# Altium integrated library Renesas Memory.IntLib: 284 symbols (part 9 of 9)
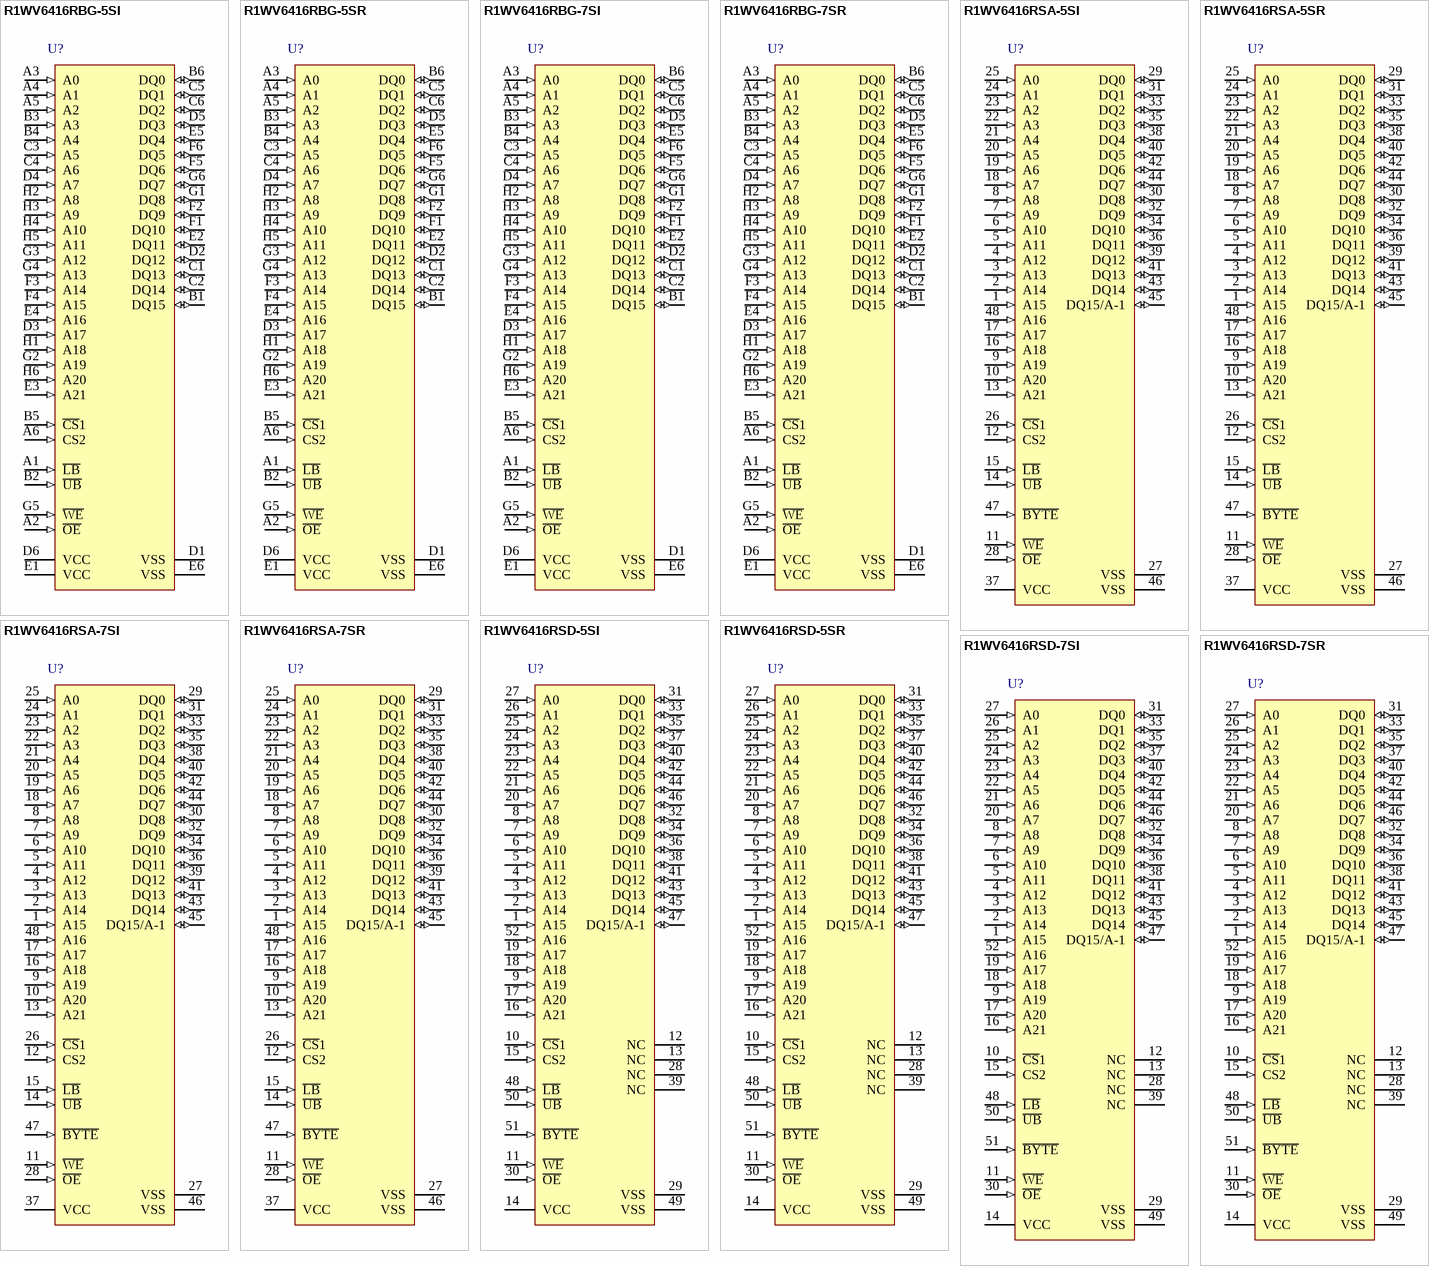
[diagram p23: symbols R1WV6416RBG-5SI to R1WV6416RSD-7SR]

## R1WV6416RBG-7SI
designator U?
R1WV6416R Series 64Mb Advanced LPSRAM (4M word x 16bit / 8M word x 8bit); Published: 3-Mar-2010; DatasheetVersion: Rev.1.00, May-2009; PackageVersion: Jul-2009; PackageReference: PTBG0048HG-A; Publisher: Altium Limited; PackageDescription: 48-Ball Plastic Thin Fine-Pitch BGA, 11 x 8.5 mm Body, 0.75 mm Pitch; Code_JEITA: P-TFBGA48-8.5x11-0.75; ComponentLink1Description: Manufacturer Link; ComponentLink1URL: http://sg.renesas.com/products/memory/memory_category_landing.jsp; ComponentLink2Description: Datasheet; ComponentLink2URL: http://documentation.renesas.com/eng/products/memory/rej03c0368_r1wv6416rds.pdf; ComponentLink3Description: Packaging Specification; ComponentLink3URL: http://sg.renesas.com/media/products/common_info/package/pdf/ic/code/ptbg0048hg_a.pdf
footprint PTBG0048HG-A (BGA, 48-Leads, Body 11x8.5mm, Pitch 0.75mm)
pins: A1 ~{LB} (in), A2 ~{OE} (in), A3 A0 (in), A4 A1 (in), A5 A2 (in), A6 CS2 (in), B1 DQ15 (io), B2 ~{UB} (in), B3 A3 (in), B4 A4 (in), B5 ~{CS}1 (in), B6 DQ0 (io), C1 DQ13 (io), C2 DQ14 (io), C3 A5 (in), C4 A6 (in), C5 DQ1 (io), C6 DQ2 (io), D1 VSS (power), D2 DQ12 (io), D3 A17 (in), D4 A7 (in), D5 DQ3 (io), D6 VCC (power), E1 VCC (power), E2 DQ11 (io), E3 A21 (in), E4 A16 (in), E5 DQ4 (io), E6 VSS (power), F1 DQ10 (io), F2 DQ9 (io), F3 A14 (in), F4 A15 (in), F5 DQ6 (io), F6 DQ5 (io), G1 DQ8 (io), G2 A19 (in), G3 A12 (in), G4 A13 (in), G5 ~{WE} (in), G6 DQ7 (io), H1 A18 (in), H2 A8 (in), H3 A9 (in), H4 A10 (in), H5 A11 (in), H6 A20 (in)

## R1WV6416RBG-7SR
designator U?
R1WV6416R Series 64Mb Advanced LPSRAM (4M word x 16bit / 8M word x 8bit); Published: 3-Mar-2010; DatasheetVersion: Rev.1.00, May-2009; PackageVersion: Jul-2009; PackageReference: PTBG0048HG-A; Publisher: Altium Limited; PackageDescription: 48-Ball Plastic Thin Fine-Pitch BGA, 11 x 8.5 mm Body, 0.75 mm Pitch; Code_JEITA: P-TFBGA48-8.5x11-0.75; ComponentLink1Description: Manufacturer Link; ComponentLink1URL: http://sg.renesas.com/products/memory/memory_category_landing.jsp; ComponentLink2Description: Datasheet; ComponentLink2URL: http://documentation.renesas.com/eng/products/memory/rej03c0368_r1wv6416rds.pdf; ComponentLink3Description: Packaging Specification; ComponentLink3URL: http://sg.renesas.com/media/products/common_info/package/pdf/ic/code/ptbg0048hg_a.pdf
footprint PTBG0048HG-A (BGA, 48-Leads, Body 11x8.5mm, Pitch 0.75mm)
pins: A1 ~{LB} (in), A2 ~{OE} (in), A3 A0 (in), A4 A1 (in), A5 A2 (in), A6 CS2 (in), B1 DQ15 (io), B2 ~{UB} (in), B3 A3 (in), B4 A4 (in), B5 ~{CS}1 (in), B6 DQ0 (io), C1 DQ13 (io), C2 DQ14 (io), C3 A5 (in), C4 A6 (in), C5 DQ1 (io), C6 DQ2 (io), D1 VSS (power), D2 DQ12 (io), D3 A17 (in), D4 A7 (in), D5 DQ3 (io), D6 VCC (power), E1 VCC (power), E2 DQ11 (io), E3 A21 (in), E4 A16 (in), E5 DQ4 (io), E6 VSS (power), F1 DQ10 (io), F2 DQ9 (io), F3 A14 (in), F4 A15 (in), F5 DQ6 (io), F6 DQ5 (io), G1 DQ8 (io), G2 A19 (in), G3 A12 (in), G4 A13 (in), G5 ~{WE} (in), G6 DQ7 (io), H1 A18 (in), H2 A8 (in), H3 A9 (in), H4 A10 (in), H5 A11 (in), H6 A20 (in)

## R1WV6416RSA-5SI
designator U?
R1WV6416R Series 64Mb Advanced LPSRAM (4M word x 16bit / 8M word x 8bit); Published: 3-Mar-2010; DatasheetVersion: Rev.1.00, May-2009; PackageVersion: Sep-2005; PackageReference: PTSA0048KA-A; Publisher: Altium Limited; PackageDescription: 48-Pin Plastic Thin Shrink Small Outline Package 0.5 mm Pitch; Code_JEITA: P-TSOP(1)48-12x18.4-0.50; ComponentLink1Description: Manufacturer Link; ComponentLink1URL: http://sg.renesas.com/products/memory/memory_category_landing.jsp; ComponentLink2Description: Datasheet; ComponentLink2URL: http://documentation.renesas.com/eng/products/memory/rej03c0368_r1wv6416rds.pdf; ComponentLink3Description: Packaging Specification; ComponentLink3URL: http://sg.renesas.com/media/products/common_info/package/pdf/ic/code/ptsa0048ka_a.pdf
footprint PTSA0048KA-A_N (TSSOP, 48-Leads, Body 12x18.4mm, Pitch 0.5mm, IPC Medium Density)
footprint PTSA0048KA-A_L (TSSOP, 48-Leads, Body 12x18.4mm, Pitch 0.5mm, IPC High Density)
footprint PTSA0048KA-A_M (TSSOP, 48-Leads, Body 12x18.4mm, Pitch 0.5mm, IPC Low Density)
pins: 1 A15 (in), 2 A14 (in), 3 A13 (in), 4 A12 (in), 5 A11 (in), 6 A10 (in), 7 A9 (in), 8 A8 (in), 9 A19 (in), 10 A20 (in), 11 ~{WE} (in), 12 CS2 (in), 13 A21 (in), 14 ~{UB} (in), 15 ~{LB} (in), 16 A18 (in), 17 A17 (in), 18 A7 (in), 19 A6 (in), 20 A5 (in), 21 A4 (in), 22 A3 (in), 23 A2 (in), 24 A1 (in), 25 A0 (in), 26 ~{CS}1 (in), 27 VSS (power), 28 ~{OE} (in), 29 DQ0 (io), 30 DQ8 (io), 31 DQ1 (io), 32 DQ9 (io), 33 DQ2 (io), 34 DQ10 (io), 35 DQ3 (io), 36 DQ11 (io), 37 VCC (power), 38 DQ4 (io), 39 DQ12 (io), 40 DQ5 (io), 41 DQ13 (io), 42 DQ6 (io), 43 DQ14 (io), 44 DQ7 (io), 45 DQ15/A-1 (io), 46 VSS (power), 47 ~{BYTE} (in), 48 A16 (in)

## R1WV6416RSA-5SR
designator U?
R1WV6416R Series 64Mb Advanced LPSRAM (4M word x 16bit / 8M word x 8bit); Published: 3-Mar-2010; DatasheetVersion: Rev.1.00, May-2009; PackageVersion: Sep-2005; PackageReference: PTSA0048KA-A; Publisher: Altium Limited; PackageDescription: 48-Pin Plastic Thin Shrink Small Outline Package 0.5 mm Pitch; Code_JEITA: P-TSOP(1)48-12x18.4-0.50; ComponentLink1Description: Manufacturer Link; ComponentLink1URL: http://sg.renesas.com/products/memory/memory_category_landing.jsp; ComponentLink2Description: Datasheet; ComponentLink2URL: http://documentation.renesas.com/eng/products/memory/rej03c0368_r1wv6416rds.pdf; ComponentLink3Description: Packaging Specification; ComponentLink3URL: http://sg.renesas.com/media/products/common_info/package/pdf/ic/code/ptsa0048ka_a.pdf
footprint PTSA0048KA-A_N (TSSOP, 48-Leads, Body 12x18.4mm, Pitch 0.5mm, IPC Medium Density)
footprint PTSA0048KA-A_L (TSSOP, 48-Leads, Body 12x18.4mm, Pitch 0.5mm, IPC High Density)
footprint PTSA0048KA-A_M (TSSOP, 48-Leads, Body 12x18.4mm, Pitch 0.5mm, IPC Low Density)
pins: 1 A15 (in), 2 A14 (in), 3 A13 (in), 4 A12 (in), 5 A11 (in), 6 A10 (in), 7 A9 (in), 8 A8 (in), 9 A19 (in), 10 A20 (in), 11 ~{WE} (in), 12 CS2 (in), 13 A21 (in), 14 ~{UB} (in), 15 ~{LB} (in), 16 A18 (in), 17 A17 (in), 18 A7 (in), 19 A6 (in), 20 A5 (in), 21 A4 (in), 22 A3 (in), 23 A2 (in), 24 A1 (in), 25 A0 (in), 26 ~{CS}1 (in), 27 VSS (power), 28 ~{OE} (in), 29 DQ0 (io), 30 DQ8 (io), 31 DQ1 (io), 32 DQ9 (io), 33 DQ2 (io), 34 DQ10 (io), 35 DQ3 (io), 36 DQ11 (io), 37 VCC (power), 38 DQ4 (io), 39 DQ12 (io), 40 DQ5 (io), 41 DQ13 (io), 42 DQ6 (io), 43 DQ14 (io), 44 DQ7 (io), 45 DQ15/A-1 (io), 46 VSS (power), 47 ~{BYTE} (in), 48 A16 (in)

## R1WV6416RSA-7SI
designator U?
R1WV6416R Series 64Mb Advanced LPSRAM (4M word x 16bit / 8M word x 8bit); Published: 3-Mar-2010; DatasheetVersion: Rev.1.00, May-2009; PackageVersion: Sep-2005; PackageReference: PTSA0048KA-A; Publisher: Altium Limited; PackageDescription: 48-Pin Plastic Thin Shrink Small Outline Package 0.5 mm Pitch; Code_JEITA: P-TSOP(1)48-12x18.4-0.50; ComponentLink1Description: Manufacturer Link; ComponentLink1URL: http://sg.renesas.com/products/memory/memory_category_landing.jsp; ComponentLink2Description: Datasheet; ComponentLink2URL: http://documentation.renesas.com/eng/products/memory/rej03c0368_r1wv6416rds.pdf; ComponentLink3Description: Packaging Specification; ComponentLink3URL: http://sg.renesas.com/media/products/common_info/package/pdf/ic/code/ptsa0048ka_a.pdf
footprint PTSA0048KA-A_N (TSSOP, 48-Leads, Body 12x18.4mm, Pitch 0.5mm, IPC Medium Density)
footprint PTSA0048KA-A_L (TSSOP, 48-Leads, Body 12x18.4mm, Pitch 0.5mm, IPC High Density)
footprint PTSA0048KA-A_M (TSSOP, 48-Leads, Body 12x18.4mm, Pitch 0.5mm, IPC Low Density)
pins: 1 A15 (in), 2 A14 (in), 3 A13 (in), 4 A12 (in), 5 A11 (in), 6 A10 (in), 7 A9 (in), 8 A8 (in), 9 A19 (in), 10 A20 (in), 11 ~{WE} (in), 12 CS2 (in), 13 A21 (in), 14 ~{UB} (in), 15 ~{LB} (in), 16 A18 (in), 17 A17 (in), 18 A7 (in), 19 A6 (in), 20 A5 (in), 21 A4 (in), 22 A3 (in), 23 A2 (in), 24 A1 (in), 25 A0 (in), 26 ~{CS}1 (in), 27 VSS (power), 28 ~{OE} (in), 29 DQ0 (io), 30 DQ8 (io), 31 DQ1 (io), 32 DQ9 (io), 33 DQ2 (io), 34 DQ10 (io), 35 DQ3 (io), 36 DQ11 (io), 37 VCC (power), 38 DQ4 (io), 39 DQ12 (io), 40 DQ5 (io), 41 DQ13 (io), 42 DQ6 (io), 43 DQ14 (io), 44 DQ7 (io), 45 DQ15/A-1 (io), 46 VSS (power), 47 ~{BYTE} (in), 48 A16 (in)

## R1WV6416RSA-7SR
designator U?
R1WV6416R Series 64Mb Advanced LPSRAM (4M word x 16bit / 8M word x 8bit); Published: 3-Mar-2010; DatasheetVersion: Rev.1.00, May-2009; PackageVersion: Sep-2005; PackageReference: PTSA0048KA-A; Publisher: Altium Limited; PackageDescription: 48-Pin Plastic Thin Shrink Small Outline Package 0.5 mm Pitch; Code_JEITA: P-TSOP(1)48-12x18.4-0.50; ComponentLink1Description: Manufacturer Link; ComponentLink1URL: http://sg.renesas.com/products/memory/memory_category_landing.jsp; ComponentLink2Description: Datasheet; ComponentLink2URL: http://documentation.renesas.com/eng/products/memory/rej03c0368_r1wv6416rds.pdf; ComponentLink3Description: Packaging Specification; ComponentLink3URL: http://sg.renesas.com/media/products/common_info/package/pdf/ic/code/ptsa0048ka_a.pdf
footprint PTSA0048KA-A_N (TSSOP, 48-Leads, Body 12x18.4mm, Pitch 0.5mm, IPC Medium Density)
footprint PTSA0048KA-A_L (TSSOP, 48-Leads, Body 12x18.4mm, Pitch 0.5mm, IPC High Density)
footprint PTSA0048KA-A_M (TSSOP, 48-Leads, Body 12x18.4mm, Pitch 0.5mm, IPC Low Density)
pins: 1 A15 (in), 2 A14 (in), 3 A13 (in), 4 A12 (in), 5 A11 (in), 6 A10 (in), 7 A9 (in), 8 A8 (in), 9 A19 (in), 10 A20 (in), 11 ~{WE} (in), 12 CS2 (in), 13 A21 (in), 14 ~{UB} (in), 15 ~{LB} (in), 16 A18 (in), 17 A17 (in), 18 A7 (in), 19 A6 (in), 20 A5 (in), 21 A4 (in), 22 A3 (in), 23 A2 (in), 24 A1 (in), 25 A0 (in), 26 ~{CS}1 (in), 27 VSS (power), 28 ~{OE} (in), 29 DQ0 (io), 30 DQ8 (io), 31 DQ1 (io), 32 DQ9 (io), 33 DQ2 (io), 34 DQ10 (io), 35 DQ3 (io), 36 DQ11 (io), 37 VCC (power), 38 DQ4 (io), 39 DQ12 (io), 40 DQ5 (io), 41 DQ13 (io), 42 DQ6 (io), 43 DQ14 (io), 44 DQ7 (io), 45 DQ15/A-1 (io), 46 VSS (power), 47 ~{BYTE} (in), 48 A16 (in)

## R1WV6416RSD-5SI
designator U?
R1WV6416R Series 64Mb Advanced LPSRAM (4M word x 16bit / 8M word x 8bit); Published: 3-Mar-2010; DatasheetVersion: Rev.1.00, May-2009; PackageVersion: Sep-2005; PackageReference: PTSB0052LB-A; Publisher: Altium Limited; PackageDescription: 52-Pin Thin Shrink Small Outline Package 0.4 mm Pitch; Code_JEITA: P-TSOP(2)52-8.89x10.79-0.40; ComponentLink1Description: Manufacturer Link; ComponentLink1URL: http://sg.renesas.com/products/memory/memory_category_landing.jsp; ComponentLink2Description: Datasheet; ComponentLink2URL: http://documentation.renesas.com/eng/products/memory/rej03c0368_r1wv6416rds.pdf; ComponentLink3Description: Packaging Specification; ComponentLink3URL: http://sg.renesas.com/media/products/common_info/package/pdf/ic/code/ptsb0052lb_a.pdf
footprint PTSB0052LB-A_N (TSSOP, 52-Leads, Body 10.8x8.9mm, Pitch 0.4mm, IPC Medium Density)
footprint PTSB0052LB-A_L (TSSOP, 52-Leads, Body 10.8x8.9mm, Pitch 0.4mm, IPC High Density)
footprint PTSB0052LB-A_M (TSSOP, 52-Leads, Body 10.8x8.9mm, Pitch 0.4mm, IPC Low Density)
pins: 1 A15 (in), 2 A14 (in), 3 A13 (in), 4 A12 (in), 5 A11 (in), 6 A10 (in), 7 A9 (in), 8 A8 (in), 9 A19 (in), 10 ~{CS}1 (in), 11 ~{WE} (in), 12 NC, 13 NC, 14 VCC (power), 15 CS2 (in), 16 A21 (in), 17 A20 (in), 18 A18 (in), 19 A17 (in), 20 A7 (in), 21 A6 (in), 22 A5 (in), 23 A4 (in), 24 A3 (in), 25 A2 (in), 26 A1 (in), 27 A0 (in), 28 NC, 29 VSS (power), 30 ~{OE} (in), 31 DQ0 (io), 32 DQ8 (io), 33 DQ1 (io), 34 DQ9 (io), 35 DQ2 (io), 36 DQ10 (io), 37 DQ3 (io), 38 DQ11 (io), 39 NC, 40 DQ4 (io), 41 DQ12 (io), 42 DQ5 (io), 43 DQ13 (io), 44 DQ6 (io), 45 DQ14 (io), 46 DQ7 (io), 47 DQ15/A-1 (io), 48 ~{LB} (in), 49 VSS (power), 50 ~{UB} (in), 51 ~{BYTE} (in), 52 A16 (in)

## R1WV6416RSD-5SR
designator U?
R1WV6416R Series 64Mb Advanced LPSRAM (4M word x 16bit / 8M word x 8bit); Published: 3-Mar-2010; DatasheetVersion: Rev.1.00, May-2009; PackageVersion: Sep-2005; PackageReference: PTSB0052LB-A; Publisher: Altium Limited; PackageDescription: 52-Pin Thin Shrink Small Outline Package 0.4 mm Pitch; Code_JEITA: P-TSOP(2)52-8.89x10.79-0.40; ComponentLink1Description: Manufacturer Link; ComponentLink1URL: http://sg.renesas.com/products/memory/memory_category_landing.jsp; ComponentLink2Description: Datasheet; ComponentLink2URL: http://documentation.renesas.com/eng/products/memory/rej03c0368_r1wv6416rds.pdf; ComponentLink3Description: Packaging Specification; ComponentLink3URL: http://sg.renesas.com/media/products/common_info/package/pdf/ic/code/ptsb0052lb_a.pdf
footprint PTSB0052LB-A_N (TSSOP, 52-Leads, Body 10.8x8.9mm, Pitch 0.4mm, IPC Medium Density)
footprint PTSB0052LB-A_L (TSSOP, 52-Leads, Body 10.8x8.9mm, Pitch 0.4mm, IPC High Density)
footprint PTSB0052LB-A_M (TSSOP, 52-Leads, Body 10.8x8.9mm, Pitch 0.4mm, IPC Low Density)
pins: 1 A15 (in), 2 A14 (in), 3 A13 (in), 4 A12 (in), 5 A11 (in), 6 A10 (in), 7 A9 (in), 8 A8 (in), 9 A19 (in), 10 ~{CS}1 (in), 11 ~{WE} (in), 12 NC, 13 NC, 14 VCC (power), 15 CS2 (in), 16 A21 (in), 17 A20 (in), 18 A18 (in), 19 A17 (in), 20 A7 (in), 21 A6 (in), 22 A5 (in), 23 A4 (in), 24 A3 (in), 25 A2 (in), 26 A1 (in), 27 A0 (in), 28 NC, 29 VSS (power), 30 ~{OE} (in), 31 DQ0 (io), 32 DQ8 (io), 33 DQ1 (io), 34 DQ9 (io), 35 DQ2 (io), 36 DQ10 (io), 37 DQ3 (io), 38 DQ11 (io), 39 NC, 40 DQ4 (io), 41 DQ12 (io), 42 DQ5 (io), 43 DQ13 (io), 44 DQ6 (io), 45 DQ14 (io), 46 DQ7 (io), 47 DQ15/A-1 (io), 48 ~{LB} (in), 49 VSS (power), 50 ~{UB} (in), 51 ~{BYTE} (in), 52 A16 (in)

## R1WV6416RSD-7SI
designator U?
R1WV6416R Series 64Mb Advanced LPSRAM (4M word x 16bit / 8M word x 8bit); Published: 3-Mar-2010; DatasheetVersion: Rev.1.00, May-2009; PackageVersion: Sep-2005; PackageReference: PTSB0052LB-A; Publisher: Altium Limited; PackageDescription: 52-Pin Thin Shrink Small Outline Package 0.4 mm Pitch; Code_JEITA: P-TSOP(2)52-8.89x10.79-0.40; ComponentLink1Description: Manufacturer Link; ComponentLink1URL: http://sg.renesas.com/products/memory/memory_category_landing.jsp; ComponentLink2Description: Datasheet; ComponentLink2URL: http://documentation.renesas.com/eng/products/memory/rej03c0368_r1wv6416rds.pdf; ComponentLink3Description: Packaging Specification; ComponentLink3URL: http://sg.renesas.com/media/products/common_info/package/pdf/ic/code/ptsb0052lb_a.pdf
footprint PTSB0052LB-A_N (TSSOP, 52-Leads, Body 10.8x8.9mm, Pitch 0.4mm, IPC Medium Density)
footprint PTSB0052LB-A_L (TSSOP, 52-Leads, Body 10.8x8.9mm, Pitch 0.4mm, IPC High Density)
footprint PTSB0052LB-A_M (TSSOP, 52-Leads, Body 10.8x8.9mm, Pitch 0.4mm, IPC Low Density)
pins: 1 A15 (in), 2 A14 (in), 3 A13 (in), 4 A12 (in), 5 A11 (in), 6 A10 (in), 7 A9 (in), 8 A8 (in), 9 A19 (in), 10 ~{CS}1 (in), 11 ~{WE} (in), 12 NC, 13 NC, 14 VCC (power), 15 CS2 (in), 16 A21 (in), 17 A20 (in), 18 A18 (in), 19 A17 (in), 20 A7 (in), 21 A6 (in), 22 A5 (in), 23 A4 (in), 24 A3 (in), 25 A2 (in), 26 A1 (in), 27 A0 (in), 28 NC, 29 VSS (power), 30 ~{OE} (in), 31 DQ0 (io), 32 DQ8 (io), 33 DQ1 (io), 34 DQ9 (io), 35 DQ2 (io), 36 DQ10 (io), 37 DQ3 (io), 38 DQ11 (io), 39 NC, 40 DQ4 (io), 41 DQ12 (io), 42 DQ5 (io), 43 DQ13 (io), 44 DQ6 (io), 45 DQ14 (io), 46 DQ7 (io), 47 DQ15/A-1 (io), 48 ~{LB} (in), 49 VSS (power), 50 ~{UB} (in), 51 ~{BYTE} (in), 52 A16 (in)

## R1WV6416RSD-7SR
designator U?
R1WV6416R Series 64Mb Advanced LPSRAM (4M word x 16bit / 8M word x 8bit); Published: 3-Mar-2010; DatasheetVersion: Rev.1.00, May-2009; PackageVersion: Sep-2005; PackageReference: PTSB0052LB-A; Publisher: Altium Limited; PackageDescription: 52-Pin Thin Shrink Small Outline Package 0.4 mm Pitch; Code_JEITA: P-TSOP(2)52-8.89x10.79-0.40; ComponentLink1Description: Manufacturer Link; ComponentLink1URL: http://sg.renesas.com/products/memory/memory_category_landing.jsp; ComponentLink2Description: Datasheet; ComponentLink2URL: http://documentation.renesas.com/eng/products/memory/rej03c0368_r1wv6416rds.pdf; ComponentLink3Description: Packaging Specification; ComponentLink3URL: http://sg.renesas.com/media/products/common_info/package/pdf/ic/code/ptsb0052lb_a.pdf
footprint PTSB0052LB-A_N (TSSOP, 52-Leads, Body 10.8x8.9mm, Pitch 0.4mm, IPC Medium Density)
footprint PTSB0052LB-A_L (TSSOP, 52-Leads, Body 10.8x8.9mm, Pitch 0.4mm, IPC High Density)
footprint PTSB0052LB-A_M (TSSOP, 52-Leads, Body 10.8x8.9mm, Pitch 0.4mm, IPC Low Density)
pins: 1 A15 (in), 2 A14 (in), 3 A13 (in), 4 A12 (in), 5 A11 (in), 6 A10 (in), 7 A9 (in), 8 A8 (in), 9 A19 (in), 10 ~{CS}1 (in), 11 ~{WE} (in), 12 NC, 13 NC, 14 VCC (power), 15 CS2 (in), 16 A21 (in), 17 A20 (in), 18 A18 (in), 19 A17 (in), 20 A7 (in), 21 A6 (in), 22 A5 (in), 23 A4 (in), 24 A3 (in), 25 A2 (in), 26 A1 (in), 27 A0 (in), 28 NC, 29 VSS (power), 30 ~{OE} (in), 31 DQ0 (io), 32 DQ8 (io), 33 DQ1 (io), 34 DQ9 (io), 35 DQ2 (io), 36 DQ10 (io), 37 DQ3 (io), 38 DQ11 (io), 39 NC, 40 DQ4 (io), 41 DQ12 (io), 42 DQ5 (io), 43 DQ13 (io), 44 DQ6 (io), 45 DQ14 (io), 46 DQ7 (io), 47 DQ15/A-1 (io), 48 ~{LB} (in), 49 VSS (power), 50 ~{UB} (in), 51 ~{BYTE} (in), 52 A16 (in)